# Altium schematic symbol library Rocket_Connectors.SchLib: 1 symbol
Pins are listed as number, name and electrical type; pins without a type are passive.

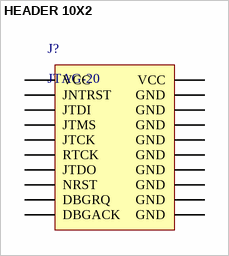
[diagram p0: symbol HEADER 10X2]

## HEADER 10X2
designator J?, comment JTAG-20
20-pin JTAG header
footprint PCBComponent_1
pins: 1 VCC, 2 VCC, 3 JNTRST, 4 GND, 5 JTDI, 6 GND, 7 JTMS, 8 GND, 9 JTCK, 10 GND, 11 RTCK, 12 GND, 13 JTDO, 14 GND, 15 NRST, 16 GND, 17 DBGRQ, 18 GND, 19 DBGACK, 20 GND